# EAGLE library part PI3523-00-LGIZ (library PI3523_00LGIZ)
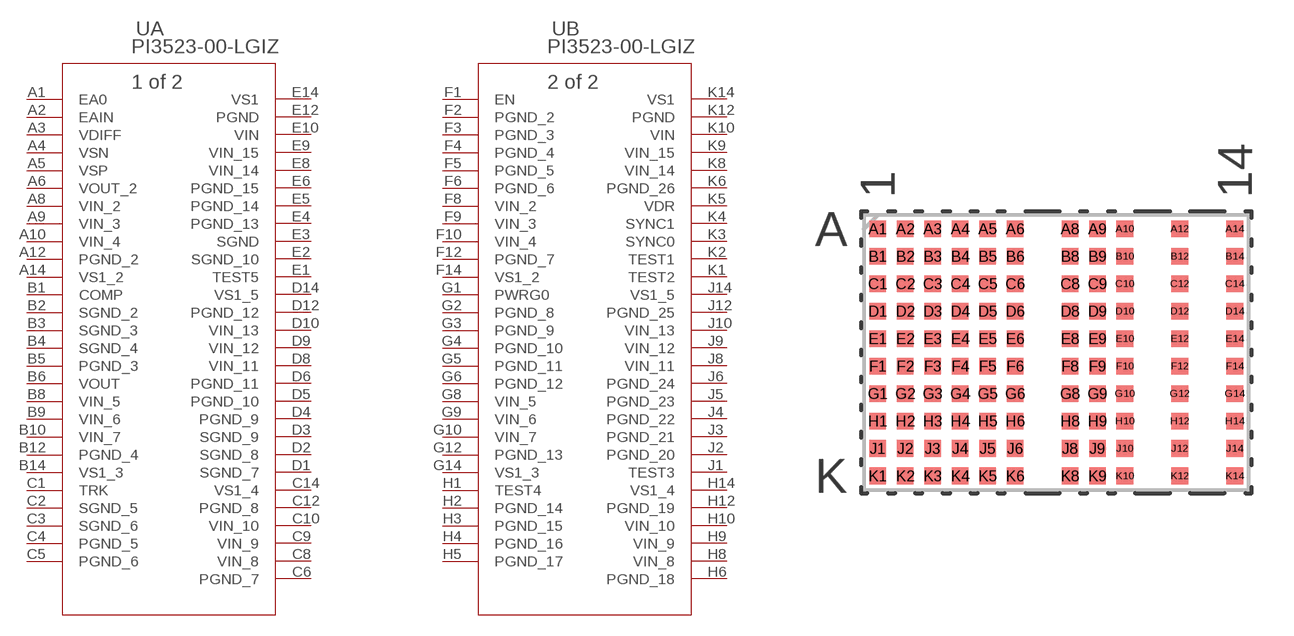
[diagram p0: symbol with the pads of LGA_PI3523-00-LGIZ_VIC; footprint LGA_PI3523-00-LGIZ_VIC]

Designator prefix U; gates A=PI3523-00-LGIZ B=PI3523-00-LGIZ_00

## PI3523-00-LGIZ (BUILT_BY: EMA_Justin; COPYRIGHT: Copyright (C) 2018 Accelerated Designs. All rights reserved; MANUFACTURER_PART_NUMBER: PI3523-00-LGIZ; SOURCELIBRARY: Add_to_database_2021-01-28; VENDOR: Vicor)  [LGA_PI3523-00-LGIZ_VIC]
A1  A:EA0  pas
A2  A:EAIN  pas
A3  A:VDIFF  pas
A4  A:VSN  pas
A5  A:VSP  pas
A6  A:VOUT_2  out
A8  A:VIN_2  pwr
A9  A:VIN_3  pwr
A10  A:VIN_4  pwr
A12  A:PGND_2  pas
A14  A:VS1_2
B1  A:COMP  pas
B2  A:SGND_2  pas
B3  A:SGND_3  pas
B4  A:SGND_4  pas
B5  A:PGND_3  pas
B6  A:VOUT  out
B8  A:VIN_5  pwr
B9  A:VIN_6  pwr
B10  A:VIN_7  pwr
B12  A:PGND_4  pas
B14  A:VS1_3
C1  A:TRK  pas
C2  A:SGND_5  pas
C3  A:SGND_6  pas
C4  A:PGND_5  pas
C5  A:PGND_6  pas
C6  A:PGND_7  pas
C8  A:VIN_8  pwr
C9  A:VIN_9  pwr
C10  A:VIN_10  pwr
C12  A:PGND_8  pas
C14  A:VS1_4
D1  A:SGND_7  pas
D2  A:SGND_8  pas
D3  A:SGND_9  pas
D4  A:PGND_9  pas
D5  A:PGND_10  pas
D6  A:PGND_11  pas
D8  A:VIN_11  pwr
D9  A:VIN_12  pwr
D10  A:VIN_13  pwr
D12  A:PGND_12  pas
D14  A:VS1_5
E1  A:TEST5
E2  A:SGND_10  pas
E3  A:SGND  pas
E4  A:PGND_13  pas
E5  A:PGND_14  pas
E6  A:PGND_15  pas
E8  A:VIN_14  pwr
E9  A:VIN_15  pwr
E10  A:VIN  pwr
E12  A:PGND  pas
E14  A:VS1
F1  B:EN  pas
F2  B:PGND_2  pas
F3  B:PGND_3  pas
F4  B:PGND_4  pas
F5  B:PGND_5  pas
F6  B:PGND_6  pas
F8  B:VIN_2  pwr
F9  B:VIN_3  pwr
F10  B:VIN_4  pwr
F12  B:PGND_7  pas
F14  B:VS1_2
G1  B:PWRG0  pas
G2  B:PGND_8  pas
G3  B:PGND_9  pas
G4  B:PGND_10  pas
G5  B:PGND_11  pas
G6  B:PGND_12  pas
G8  B:VIN_5  pwr
G9  B:VIN_6  pwr
G10  B:VIN_7  pwr
G12  B:PGND_13  pas
G14  B:VS1_3
H1  B:TEST4
H2  B:PGND_14  pas
H3  B:PGND_15  pas
H4  B:PGND_16  pas
H5  B:PGND_17  pas
H6  B:PGND_18  pas
H8  B:VIN_8  pwr
H9  B:VIN_9  pwr
H10  B:VIN_10  pwr
H12  B:PGND_19  pas
H14  B:VS1_4
J1  B:TEST3
J2  B:PGND_20  pas
J3  B:PGND_21  pas
J4  B:PGND_22  pas
J5  B:PGND_23  pas
J6  B:PGND_24  pas
J8  B:VIN_11  pwr
J9  B:VIN_12  pwr
J10  B:VIN_13  pwr
J12  B:PGND_25  pas
J14  B:VS1_5
K1  B:TEST2
K2  B:TEST1
K3  B:SYNC0
K4  B:SYNC1
K5  B:VDR  pas
K6  B:PGND_26  pas
K8  B:VIN_14  pwr
K9  B:VIN_15  pwr
K10  B:VIN  pwr
K12  B:PGND  pas
K14  B:VS1

## Footprint LGA_PI3523-00-LGIZ_VIC (pad centres in mm)
smd 0.61 x 0.61: A1 -6.5,4.5; A2 -5.5,4.5; A3 -4.5,4.5; A4 -3.5,4.5; A5 -2.5,4.5; A6 -1.5,4.5; A8 0.5,4.5; A9 1.5,4.5; A10 2.5,4.5; A12 4.5,4.5; A14 6.5,4.5; B1 -6.5,3.5; B2 -5.5,3.5; B3 -4.5,3.5; B4 -3.5,3.5; B5 -2.5,3.5; B6 -1.5,3.5; B8 0.5,3.5; B9 1.5,3.5; B10 2.5,3.5; B12 4.5,3.5; B14 6.5,3.5; C1 -6.5,2.5; C2 -5.5,2.5; C3 -4.5,2.5; C4 -3.5,2.5; C5 -2.5,2.5; C6 -1.5,2.5; C8 0.5,2.5; C9 1.5,2.5; C10 2.5,2.5; C12 4.5,2.5; C14 6.5,2.5; D1 -6.5,1.5; D2 -5.5,1.5; D3 -4.5,1.5; D4 -3.5,1.5; D5 -2.5,1.5; D6 -1.5,1.5; D8 0.5,1.5; D9 1.5,1.5; D10 2.5,1.5; D12 4.5,1.5; D14 6.5,1.5; E1 -6.5,0.5; E2 -5.5,0.5; E3 -4.5,0.5; E4 -3.5,0.5; E5 -2.5,0.5; E6 -1.5,0.5; E8 0.5,0.5; E9 1.5,0.5; E10 2.5,0.5; E12 4.5,0.5; E14 6.5,0.5; F1 -6.5,-0.5; F2 -5.5,-0.5; F3 -4.5,-0.5; F4 -3.5,-0.5; F5 -2.5,-0.5; F6 -1.5,-0.5; F8 0.5,-0.5; F9 1.5,-0.5; F10 2.5,-0.5; F12 4.5,-0.5; F14 6.5,-0.5; G1 -6.5,-1.5; G2 -5.5,-1.5; G3 -4.5,-1.5; G4 -3.5,-1.5; G5 -2.5,-1.5; G6 -1.5,-1.5; G8 0.5,-1.5; G9 1.5,-1.5; G10 2.5,-1.5; G12 4.5,-1.5; G14 6.5,-1.5; H1 -6.5,-2.5; H2 -5.5,-2.5; H3 -4.5,-2.5; H4 -3.5,-2.5; H5 -2.5,-2.5; H6 -1.5,-2.5; H8 0.5,-2.5; H9 1.5,-2.5; H10 2.5,-2.5; H12 4.5,-2.5; H14 6.5,-2.5; J1 -6.5,-3.5; J2 -5.5,-3.5; J3 -4.5,-3.5; J4 -3.5,-3.5; J5 -2.5,-3.5; J6 -1.5,-3.5; J8 0.5,-3.5; J9 1.5,-3.5; J10 2.5,-3.5; J12 4.5,-3.5; J14 6.5,-3.5; K1 -6.5,-4.5; K2 -5.5,-4.5; K3 -4.5,-4.5; K4 -3.5,-4.5; K5 -2.5,-4.5; K6 -1.5,-4.5; K8 0.5,-4.5; K9 1.5,-4.5; K10 2.5,-4.5; K12 4.5,-4.5; K14 6.5,-4.5